# EAGLE library part HD.1-6 (library pecs)
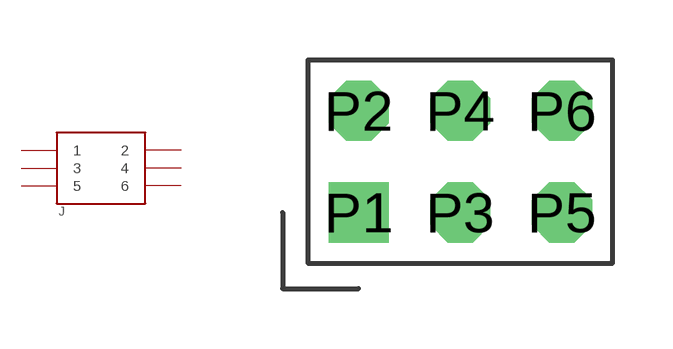
[diagram p3: symbol with the pads of HD.1-6; footprint HD.1-6]

Designator prefix J

## HD.1-6  [HD.1-6]
P1  1
P2  2
P3  3
P4  4
P5  5
P6  6

## Footprint HD.1-6 (pad centres in mm)
drill 1 square: P1 0,0
drill 1 octagon: P2 0,2.54; P3 2.54,0; P4 2.54,2.54; P5 5.08,0; P6 5.08,2.54